# Altium schematic symbol library 150120YS75000.SchLib: 1 symbol
Pins are listed as number, name and electrical type; pins without a type are passive.

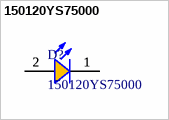
[diagram p0: symbol 150120YS75000]

## 150120YS75000
designator D?
Yellow 590nm LED Indication - Discrete 2V 1206 (3216 Metric)
footprint 150120YS75000
pins: 1 K, 1 K, 2 A, 2 A